# Altium footprint library SOP_635P_N.PcbLib: 17 footprints (part 1 of 2)
Each footprint in its own frame and in the unit in brackets; x right, y up, seen from the top. Pads: shape width x height; smd on the part's side, far side on the other; paste and mask are expansions set on the pad; w line width, h text height; cw(c..) or ccw(c..) is an arc to the next point about the centre after c.
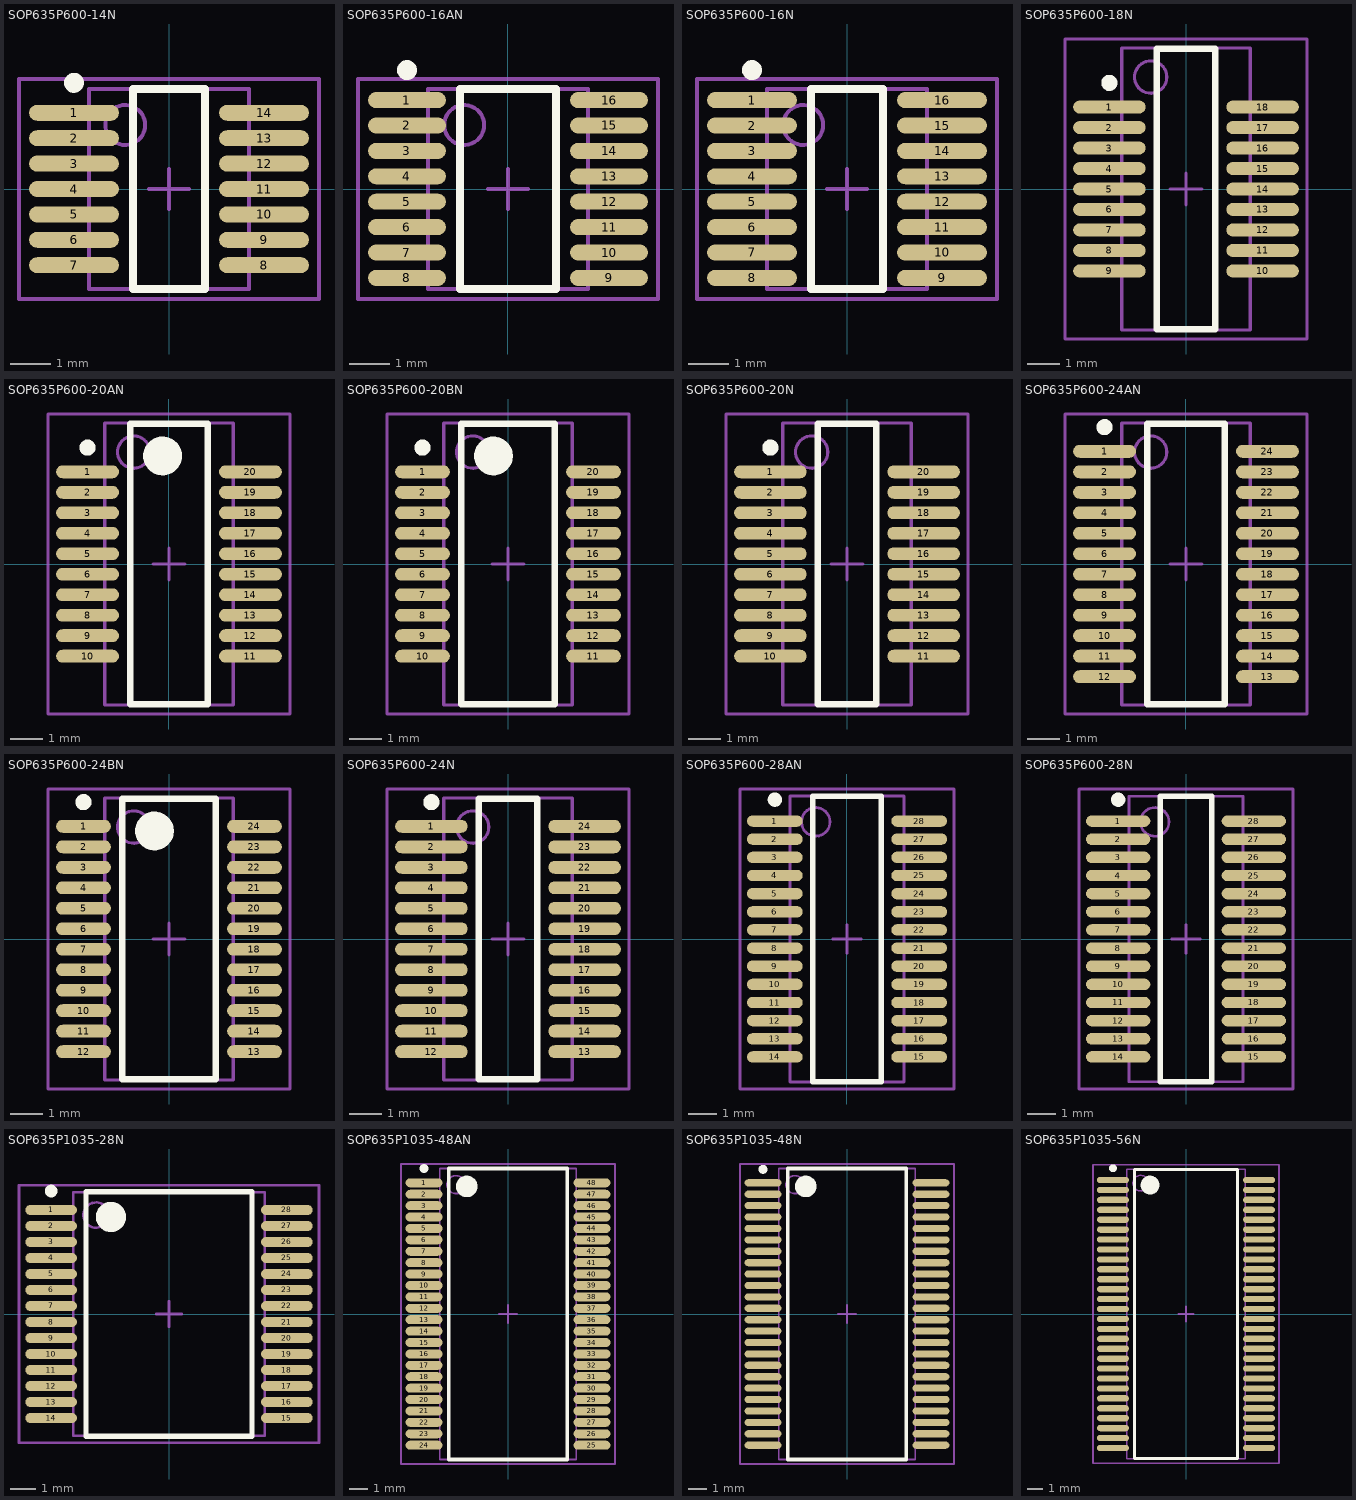
[diagram p0: the footprints below, top view; thin cyan lines are the x and y axes]

## SOP635P600-14N [mm] "SOP, 14-Leads, Body 4.9x3.9mm, Pitch 0.635mm, IPC Medium Density"
height 1.76
pads (14):
  oval 2.25x0.4 smd: 1(-2.375,1.905) 2(-2.375,1.27) 3(-2.375,0.635) 4(-2.375,0) 5(-2.375,-0.635) 6(-2.375,-1.27) 7(-2.375,-1.905) 8(2.375,-1.905) 9(2.375,-1.27) 10(2.375,-0.635) 11(2.375,0) 12(2.375,0.635) 13(2.375,1.27) 14(2.375,1.905)
Top Overlay:
  circle w0.25: c-2.375,2.655 r0.125
  lines w0.2: -0.9,-2.5 0.9,-2.5 0.9,2.5 -0.9,2.5 -0.9,-2.5
Mechanical 13:
  circle w0.1: c-1.095,1.6 r0.5
  lines w0.1: -1.995,-2.5 1.995,-2.5 1.995,2.5 -1.995,2.5 -1.995,-2.5
Mechanical 15:
  lines w0.1: -0.5,0 0.5,0 ; 0,-0.5 0,0.5 ; -3.75,-2.75 3.75,-2.75 3.75,2.75 -3.75,2.75 -3.75,-2.75
3D body: height 1.76, standoff 0, extent -1.995,-2.5 1.995,2.5

## SOP635P600-16AN [mm] "SOP, 16-Leads, Body 4.9x3.9mm, Pitch 0.635mm, IPC Medium Density"
height 1.76
pads (16):
  oval 1.95x0.4 smd: 1(-2.525,2.222) 2(-2.525,1.587) 3(-2.525,0.953) 4(-2.525,0.318) 5(-2.525,-0.318) 6(-2.525,-0.953) 7(-2.525,-1.587) 8(-2.525,-2.222) 9(2.525,-2.222) 10(2.525,-1.587) 11(2.525,-0.953) 12(2.525,-0.318) 13(2.525,0.318) 14(2.525,0.953) 15(2.525,1.587) 16(2.525,2.222)
Top Overlay:
  circle w0.25: c-2.525,2.973 r0.125
  lines w0.2: -1.2,-2.5 -1.2,2.5 1.2,2.5 1.2,-2.5 -1.2,-2.5
Mechanical 13:
  circle w0.1: c-1.095,1.6 r0.5
  lines w0.1: -1.995,-2.5 -1.995,2.5 1.995,2.5 1.995,-2.5 -1.995,-2.5
Mechanical 15:
  lines w0.1: -0.5,0 0.5,0 ; 0,-0.5 0,0.5 ; -3.75,-2.75 -3.75,2.75 3.75,2.75 3.75,-2.75 -3.75,-2.75
3D body: height 1.76, standoff 0, extent -1.995,-2.5 1.995,2.5

## SOP635P600-16N [mm] "SOP, 16-Leads, Body 4.9x3.9mm, Pitch 0.635mm, IPC Medium Density"
height 1.76
pads (16):
  oval 2.25x0.4 smd: 1(-2.375,2.222) 2(-2.375,1.587) 3(-2.375,0.953) 4(-2.375,0.318) 5(-2.375,-0.318) 6(-2.375,-0.953) 7(-2.375,-1.587) 8(-2.375,-2.222) 9(2.375,-2.222) 10(2.375,-1.587) 11(2.375,-0.953) 12(2.375,-0.318) 13(2.375,0.318) 14(2.375,0.953) 15(2.375,1.587) 16(2.375,2.222)
Top Overlay:
  circle w0.25: c-2.375,2.973 r0.125
  lines w0.2: -0.9,-2.5 0.9,-2.5 0.9,2.5 -0.9,2.5 -0.9,-2.5
Mechanical 13:
  circle w0.1: c-1.095,1.6 r0.5
  lines w0.1: -1.995,-2.5 1.995,-2.5 1.995,2.5 -1.995,2.5 -1.995,-2.5
Mechanical 15:
  lines w0.1: -0.5,0 0.5,0 ; 0,-0.5 0,0.5 ; -3.75,-2.75 3.75,-2.75 3.75,2.75 -3.75,2.75 -3.75,-2.75
3D body: height 1.76, standoff 0, extent -1.995,-2.5 1.995,2.5

## SOP635P600-18N [mm] "SOP, 18-Leads, Body 8.6x3.9mm, Pitch 0.635mm, IPC Medium Density"
height 1.76
pads (18):
  oval 2.25x0.4 smd: 1(-2.375,2.54) 2(-2.375,1.905) 3(-2.375,1.27) 4(-2.375,0.635) 5(-2.375,0) 6(-2.375,-0.635) 7(-2.375,-1.27) 8(-2.375,-1.905) 9(-2.375,-2.54) 10(2.375,-2.54) 11(2.375,-1.905) 12(2.375,-1.27) 13(2.375,-0.635) 14(2.375,0) 15(2.375,0.635) 16(2.375,1.27) 17(2.375,1.905) 18(2.375,2.54)
Top Overlay:
  circle w0.25: c-2.375,3.29 r0.125
  lines w0.2: -0.9,-4.35 0.9,-4.35 0.9,4.35 -0.9,4.35 -0.9,-4.35
Mechanical 13:
  circle w0.1: c-1.095,3.47 r0.5
  lines w0.1: -1.995,-4.37 1.995,-4.37 1.995,4.37 -1.995,4.37 -1.995,-4.37
Mechanical 15:
  lines w0.1: -0.5,0 0.5,0 ; 0,-0.5 0,0.5 ; -3.75,-4.65 3.75,-4.65 3.75,4.65 -3.75,4.65 -3.75,-4.65
3D body: height 1.76, standoff 0, extent -1.995,-4.37 1.995,4.37

## SOP635P600-20AN [mm] "SOP, 20-Leads, Body 8.7x3.9mm, Pitch 0.635mm, IPC Medium Density"
height 1.75
pads (20):
  oval 1.95x0.4 smd: 1(-2.525,2.857) 2(-2.525,2.222) 3(-2.525,1.587) 4(-2.525,0.953) 5(-2.525,0.318) 6(-2.525,-0.318) 7(-2.525,-0.953) 8(-2.525,-1.587) 9(-2.525,-2.222) 10(-2.525,-2.857) 11(2.525,-2.857) 12(2.525,-2.222) 13(2.525,-1.587) 14(2.525,-0.953) 15(2.525,-0.318) 16(2.525,0.318) 17(2.525,0.953) 18(2.525,1.587) 19(2.525,2.222) 20(2.525,2.857)
Top Overlay:
  circle w0.6: c-0.2,3.35 r0.3
  circle w0.25: c-2.525,3.608 r0.125
  lines w0.2: -1.2,-4.35 1.2,-4.35 1.2,4.35 -1.2,4.35 -1.2,-4.35
Mechanical 13:
  circle w0.1: c-1.095,3.47 r0.5
  lines w0.1: -1.995,-4.37 1.995,-4.37 1.995,4.37 -1.995,4.37 -1.995,-4.37
Mechanical 15:
  lines w0.1: -0.5,0 0.5,0 ; 0,-0.5 0,0.5 ; -3.75,-4.65 3.75,-4.65 3.75,4.65 -3.75,4.65 -3.75,-4.65
3D body: height 1.75, standoff 0, extent -1.995,-4.37 1.995,4.37

## SOP635P600-20BN [mm] "SOP, 20-Leads, Body 8.7x3.9mm, Pitch 0.635mm, IPC Medium Density"
height 1.73
pads (20):
  oval 1.7x0.4 smd: 1(-2.65,2.857) 2(-2.65,2.222) 3(-2.65,1.587) 4(-2.65,0.953) 5(-2.65,0.318) 6(-2.65,-0.318) 7(-2.65,-0.953) 8(-2.65,-1.587) 9(-2.65,-2.222) 10(-2.65,-2.857) 11(2.65,-2.857) 12(2.65,-2.222) 13(2.65,-1.587) 14(2.65,-0.953) 15(2.65,-0.318) 16(2.65,0.318) 17(2.65,0.953) 18(2.65,1.587) 19(2.65,2.222) 20(2.65,2.857)
Top Overlay:
  circle w0.25: c-2.65,3.608 r0.125
  circle w0.6: c-0.45,3.35 r0.3
  lines w0.2: -1.45,-4.35 -1.45,4.35 1.45,4.35 1.45,-4.35 -1.45,-4.35
Mechanical 13:
  circle w0.1: c-1.095,3.47 r0.5
  lines w0.1: -1.995,-4.37 -1.995,4.37 1.995,4.37 1.995,-4.37 -1.995,-4.37
Mechanical 15:
  lines w0.1: -0.5,0 0.5,0 ; 0,-0.5 0,0.5 ; -3.75,-4.65 -3.75,4.65 3.75,4.65 3.75,-4.65 -3.75,-4.65
3D body: height 1.73, standoff 0, extent -1.995,-4.37 1.995,4.37

## SOP635P600-20N [mm] "SOP, 20-Leads, Body 8.6x3.9mm, Pitch 0.635mm, IPC Medium Density"
height 1.76
pads (20):
  oval 2.25x0.4 smd: 1(-2.375,2.857) 2(-2.375,2.222) 3(-2.375,1.587) 4(-2.375,0.953) 5(-2.375,0.318) 6(-2.375,-0.318) 7(-2.375,-0.953) 8(-2.375,-1.587) 9(-2.375,-2.222) 10(-2.375,-2.857) 11(2.375,-2.857) 12(2.375,-2.222) 13(2.375,-1.587) 14(2.375,-0.953) 15(2.375,-0.318) 16(2.375,0.318) 17(2.375,0.953) 18(2.375,1.587) 19(2.375,2.222) 20(2.375,2.857)
Top Overlay:
  circle w0.25: c-2.375,3.608 r0.125
  lines w0.2: -0.9,-4.35 0.9,-4.35 0.9,4.35 -0.9,4.35 -0.9,-4.35
Mechanical 13:
  circle w0.1: c-1.095,3.47 r0.5
  lines w0.1: -1.995,-4.37 1.995,-4.37 1.995,4.37 -1.995,4.37 -1.995,-4.37
Mechanical 15:
  lines w0.1: -0.5,0 0.5,0 ; 0,-0.5 0,0.5 ; -3.75,-4.65 3.75,-4.65 3.75,4.65 -3.75,4.65 -3.75,-4.65
3D body: height 1.76, standoff 0, extent -1.995,-4.37 1.995,4.37

## SOP635P600-24AN [mm] "SOP, 24-Leads, Body 8.6x3.9mm, Pitch 0.635mm, IPC Medium Density"
height 1.76
pads (24):
  oval 1.95x0.4 smd: 1(-2.525,3.492) 2(-2.525,2.857) 3(-2.525,2.222) 4(-2.525,1.587) 5(-2.525,0.953) 6(-2.525,0.318) 7(-2.525,-0.318) 8(-2.525,-0.953) 9(-2.525,-1.587) 10(-2.525,-2.222) 11(-2.525,-2.857) 12(-2.525,-3.492) 13(2.525,-3.492) 14(2.525,-2.857) 15(2.525,-2.222) 16(2.525,-1.587) 17(2.525,-0.953) 18(2.525,-0.318) 19(2.525,0.318) 20(2.525,0.953) 21(2.525,1.587) 22(2.525,2.222) 23(2.525,2.857) 24(2.525,3.492)
Top Overlay:
  circle w0.25: c-2.525,4.243 r0.125
  lines w0.2: -1.2,-4.35 1.2,-4.35 1.2,4.35 -1.2,4.35 -1.2,-4.35
Mechanical 13:
  circle w0.1: c-1.095,3.47 r0.5
  lines w0.1: -1.995,-4.37 1.995,-4.37 1.995,4.37 -1.995,4.37 -1.995,-4.37
Mechanical 15:
  lines w0.1: -0.5,0 0.5,0 ; 0,-0.5 0,0.5 ; -3.75,-4.65 3.75,-4.65 3.75,4.65 -3.75,4.65 -3.75,-4.65
3D body: height 1.76, standoff 0, extent -1.995,-4.37 1.995,4.37

## SOP635P600-24BN [mm] "SOP, 24-Leads, Body 8.7x3.9mm, Pitch 0.635mm, IPC Medium Density"
height 1.73
pads (24):
  oval 1.7x0.4 smd: 1(-2.65,3.492) 2(-2.65,2.857) 3(-2.65,2.222) 4(-2.65,1.587) 5(-2.65,0.953) 6(-2.65,0.318) 7(-2.65,-0.318) 8(-2.65,-0.953) 9(-2.65,-1.587) 10(-2.65,-2.222) 11(-2.65,-2.857) 12(-2.65,-3.492) 13(2.65,-3.492) 14(2.65,-2.857) 15(2.65,-2.222) 16(2.65,-1.587) 17(2.65,-0.953) 18(2.65,-0.318) 19(2.65,0.318) 20(2.65,0.953) 21(2.65,1.587) 22(2.65,2.222) 23(2.65,2.857) 24(2.65,3.492)
Top Overlay:
  circle w0.25: c-2.65,4.243 r0.125
  circle w0.6: c-0.45,3.35 r0.3
  lines w0.2: -1.45,-4.35 -1.45,4.35 1.45,4.35 1.45,-4.35 -1.45,-4.35
Mechanical 13:
  circle w0.1: c-1.095,3.47 r0.5
  lines w0.1: -1.995,-4.37 -1.995,4.37 1.995,4.37 1.995,-4.37 -1.995,-4.37
Mechanical 15:
  lines w0.1: -0.5,0 0.5,0 ; 0,-0.5 0,0.5 ; -3.75,-4.65 -3.75,4.65 3.75,4.65 3.75,-4.65 -3.75,-4.65
3D body: height 1.73, standoff 0, extent -1.995,-4.37 1.995,4.37

## SOP635P600-24N [mm] "SOP, 24-Leads, Body 8.6x3.9mm, Pitch 0.635mm, IPC Medium Density"
height 1.76
pads (24):
  oval 2.25x0.4 smd: 1(-2.375,3.492) 2(-2.375,2.857) 3(-2.375,2.222) 4(-2.375,1.587) 5(-2.375,0.953) 6(-2.375,0.318) 7(-2.375,-0.318) 8(-2.375,-0.953) 9(-2.375,-1.587) 10(-2.375,-2.222) 11(-2.375,-2.857) 12(-2.375,-3.492) 13(2.375,-3.492) 14(2.375,-2.857) 15(2.375,-2.222) 16(2.375,-1.587) 17(2.375,-0.953) 18(2.375,-0.318) 19(2.375,0.318) 20(2.375,0.953) 21(2.375,1.587) 22(2.375,2.222) 23(2.375,2.857) 24(2.375,3.492)
Top Overlay:
  circle w0.25: c-2.375,4.243 r0.125
  lines w0.2: -0.9,-4.35 0.9,-4.35 0.9,4.35 -0.9,4.35 -0.9,-4.35
Mechanical 13:
  circle w0.1: c-1.095,3.47 r0.5
  lines w0.1: -1.995,-4.37 1.995,-4.37 1.995,4.37 -1.995,4.37 -1.995,-4.37
Mechanical 15:
  lines w0.1: -0.5,0 0.5,0 ; 0,-0.5 0,0.5 ; -3.75,-4.65 3.75,-4.65 3.75,4.65 -3.75,4.65 -3.75,-4.65
3D body: height 1.76, standoff 0, extent -1.995,-4.37 1.995,4.37

## SOP635P600-28AN [mm] "SOP, 28-Leads, Body 9.9x3.9mm, Pitch 0.635mm, IPC Medium Density"
height 1.73
pads (28):
  oval 1.95x0.4 smd: 1(-2.525,4.127) 2(-2.525,3.492) 3(-2.525,2.857) 4(-2.525,2.222) 5(-2.525,1.587) 6(-2.525,0.953) 7(-2.525,0.318) 8(-2.525,-0.318) 9(-2.525,-0.953) 10(-2.525,-1.587) 11(-2.525,-2.222) 12(-2.525,-2.857) 13(-2.525,-3.492) 14(-2.525,-4.127) 15(2.525,-4.127) 16(2.525,-3.492) 17(2.525,-2.857) 18(2.525,-2.222) 19(2.525,-1.587) 20(2.525,-0.953) 21(2.525,-0.318) 22(2.525,0.318) 23(2.525,0.953) 24(2.525,1.587) 25(2.525,2.222) 26(2.525,2.857) 27(2.525,3.492) 28(2.525,4.127)
Top Overlay:
  circle w0.25: c-2.525,4.878 r0.125
  lines w0.2: -1.2,-5 1.2,-5 1.2,5 -1.2,5 -1.2,-5
Mechanical 13:
  circle w0.1: c-1.095,4.1 r0.5
  lines w0.1: -1.995,-5 1.995,-5 1.995,5 -1.995,5 -1.995,-5
Mechanical 15:
  lines w0.1: -0.5,0 0.5,0 ; 0,-0.5 0,0.5 ; -3.75,-5.25 3.75,-5.25 3.75,5.25 -3.75,5.25 -3.75,-5.25
3D body: height 1.73, standoff 0, extent -1.995,-5 1.995,5

## SOP635P600-28N [mm] "SOP, 28-Leads, Body 9.9x3.9mm, Pitch 0.635mm, IPC Medium Density"
height 1.76
pads (28):
  oval 2.25x0.4 smd: 1(-2.375,4.127) 2(-2.375,3.492) 3(-2.375,2.857) 4(-2.375,2.222) 5(-2.375,1.587) 6(-2.375,0.953) 7(-2.375,0.318) 8(-2.375,-0.318) 9(-2.375,-0.953) 10(-2.375,-1.587) 11(-2.375,-2.222) 12(-2.375,-2.857) 13(-2.375,-3.492) 14(-2.375,-4.127) 15(2.375,-4.127) 16(2.375,-3.492) 17(2.375,-2.857) 18(2.375,-2.222) 19(2.375,-1.587) 20(2.375,-0.953) 21(2.375,-0.318) 22(2.375,0.318) 23(2.375,0.953) 24(2.375,1.587) 25(2.375,2.222) 26(2.375,2.857) 27(2.375,3.492) 28(2.375,4.127)
Top Overlay:
  circle w0.25: c-2.375,4.878 r0.125
  lines w0.2: -0.9,-5 0.9,-5 0.9,5 -0.9,5 -0.9,-5
Mechanical 13:
  circle w0.1: c-1.095,4.1 r0.5
  lines w0.1: -1.995,-5 1.995,-5 1.995,5 -1.995,5 -1.995,-5
Mechanical 15:
  lines w0.1: -0.5,0 0.5,0 ; 0,-0.5 0,0.5 ; -3.75,-5.25 3.75,-5.25 3.75,5.25 -3.75,5.25 -3.75,-5.25
3D body: height 1.76, standoff 0, extent -1.995,-5 1.995,5

## SOP635P1035-28N [mm] "SOP, 28-Leads, Body 9.5x7.5mm, Pitch 0.635mm, IPC Medium Density"
height 2.8
pads (28):
  oval 2.05x0.4 smd: 1(-4.675,4.127) 2(-4.675,3.492) 3(-4.675,2.857) 4(-4.675,2.222) 5(-4.675,1.587) 6(-4.675,0.953) 7(-4.675,0.318) 8(-4.675,-0.318) 9(-4.675,-0.953) 10(-4.675,-1.587) 11(-4.675,-2.222) 12(-4.675,-2.857) 13(-4.675,-3.492) 14(-4.675,-4.127) 15(4.675,-4.127) 16(4.675,-3.492) 17(4.675,-2.857) 18(4.675,-2.222) 19(4.675,-1.587) 20(4.675,-0.953) 21(4.675,-0.318) 22(4.675,0.318) 23(4.675,0.953) 24(4.675,1.587) 25(4.675,2.222) 26(4.675,2.857) 27(4.675,3.492) 28(4.675,4.127)
Top Overlay:
  circle w0.6: c-2.3,3.85 r0.3
  circle w0.25: c-4.675,4.878 r0.125
  lines w0.2: -3.3,-4.85 3.3,-4.85 3.3,4.85 -3.3,4.85 -3.3,-4.85
Mechanical 13:
  circle w0.1: c-2.895,3.925 r0.5
  lines w0.1: -3.795,-4.825 3.795,-4.825 3.795,4.825 -3.795,4.825 -3.795,-4.825
Mechanical 15:
  lines w0.1: -0.5,0 0.5,0 ; 0,-0.5 0,0.5 ; -5.95,-5.1 5.95,-5.1 5.95,5.1 -5.95,5.1 -5.95,-5.1
3D body: height 2.8, standoff 0, extent -3.795,-4.825 3.795,4.825

## SOP635P1035-48AN [mm] "SOP, 48-Leads, Body 15.9x7.5mm, Pitch 0.635mm, IPC Medium Density"
height 2.74
pads (48):
  oval 2.05x0.5 smd: 1(-4.675,7.302) 2(-4.675,6.667) 3(-4.675,6.032) 4(-4.675,5.397) 5(-4.675,4.763) 6(-4.675,4.127) 7(-4.675,3.492) 8(-4.675,2.857) 9(-4.675,2.222) 10(-4.675,1.587) 11(-4.675,0.953) 12(-4.675,0.318) 13(-4.675,-0.318) 14(-4.675,-0.953) 15(-4.675,-1.587) 16(-4.675,-2.222) 17(-4.675,-2.857) 18(-4.675,-3.492) 19(-4.675,-4.127) 20(-4.675,-4.763) 21(-4.675,-5.397) 22(-4.675,-6.032) 23(-4.675,-6.667) 24(-4.675,-7.302) 25(4.675,-7.302) 26(4.675,-6.667) 27(4.675,-6.032) 28(4.675,-5.397) 29(4.675,-4.763) 30(4.675,-4.127) 31(4.675,-3.492) 32(4.675,-2.857) 33(4.675,-2.222) 34(4.675,-1.587) 35(4.675,-0.953) 36(4.675,-0.318) 37(4.675,0.318) 38(4.675,0.953) 39(4.675,1.587) 40(4.675,2.222) 41(4.675,2.857) 42(4.675,3.492) 43(4.675,4.127) 44(4.675,4.763) 45(4.675,5.397) 46(4.675,6.032) 47(4.675,6.667) 48(4.675,7.302)
Top Overlay:
  circle w0.6: c-2.3,7.1 r0.3
  circle w0.25: c-4.675,8.103 r0.125
  lines w0.2: -3.3,-8.1 3.3,-8.1 3.3,8.1 -3.3,8.1 -3.3,-8.1
Mechanical 13:
  circle w0.1: c-2.895,7.2 r0.5
  lines w0.1: -3.795,-8.1 3.795,-8.1 3.795,8.1 -3.795,8.1 -3.795,-8.1
Mechanical 15:
  lines w0.1: -0.5,0 0.5,0 ; 0,-0.5 0,0.5 ; -5.95,-8.35 5.95,-8.35 5.95,8.35 -5.95,8.35 -5.95,-8.35
3D body: height 2.74, standoff 0, extent -3.795,-8.1 3.795,8.1

## SOP635P1035-48N [mm] "SOP, 48-Leads, Body 15.9x7.5mm, Pitch 0.635mm, IPC Medium Density"
height 2.79
pads (48):
  oval 2.05x0.4 smd: 1(-4.675,7.302) 2(-4.675,6.667) 3(-4.675,6.032) 4(-4.675,5.397) 5(-4.675,4.763) 6(-4.675,4.127) 7(-4.675,3.492) 8(-4.675,2.857) 9(-4.675,2.222) 10(-4.675,1.587) 11(-4.675,0.953) 12(-4.675,0.318) 13(-4.675,-0.318) 14(-4.675,-0.953) 15(-4.675,-1.587) 16(-4.675,-2.222) 17(-4.675,-2.857) 18(-4.675,-3.492) 19(-4.675,-4.127) 20(-4.675,-4.763) 21(-4.675,-5.397) 22(-4.675,-6.032) 23(-4.675,-6.667) 24(-4.675,-7.302) 25(4.675,-7.302) 26(4.675,-6.667) 27(4.675,-6.032) 28(4.675,-5.397) 29(4.675,-4.763) 30(4.675,-4.127) 31(4.675,-3.492) 32(4.675,-2.857) 33(4.675,-2.222) 34(4.675,-1.587) 35(4.675,-0.953) 36(4.675,-0.318) 37(4.675,0.318) 38(4.675,0.953) 39(4.675,1.587) 40(4.675,2.222) 41(4.675,2.857) 42(4.675,3.492) 43(4.675,4.127) 44(4.675,4.763) 45(4.675,5.397) 46(4.675,6.032) 47(4.675,6.667) 48(4.675,7.302)
Top Overlay:
  circle w0.6: c-2.3,7.1 r0.3
  circle w0.25: c-4.675,8.053 r0.125
  lines w0.2: -3.3,-8.1 3.3,-8.1 3.3,8.1 -3.3,8.1 -3.3,-8.1
Mechanical 13:
  circle w0.1: c-2.895,7.2 r0.5
  lines w0.1: -3.795,-8.1 3.795,-8.1 3.795,8.1 -3.795,8.1 -3.795,-8.1
Mechanical 15:
  lines w0.1: -0.5,0 0.5,0 ; 0,-0.5 0,0.5 ; -5.95,-8.35 5.95,-8.35 5.95,8.35 -5.95,8.35 -5.95,-8.35
3D body: height 2.79, standoff 0, extent -3.795,-8.1 3.795,8.1

## SOP635P1035-56N [mm] "SOP, 56-Leads, Body 18.4x7.5mm, Pitch 0.635mm, IPC Medium Density"
height 2.79
pads (56):
  oval 2.05x0.4 smd: 1(-4.675,8.572) 2(-4.675,7.938) 3(-4.675,7.302) 4(-4.675,6.667) 5(-4.675,6.032) 6(-4.675,5.397) 7(-4.675,4.763) 8(-4.675,4.127) 9(-4.675,3.492) 10(-4.675,2.857) 11(-4.675,2.222) 12(-4.675,1.587) 13(-4.675,0.953) 14(-4.675,0.318) 15(-4.675,-0.318) 16(-4.675,-0.953) 17(-4.675,-1.587) 18(-4.675,-2.222) 19(-4.675,-2.857) 20(-4.675,-3.492) 21(-4.675,-4.127) 22(-4.675,-4.763) 23(-4.675,-5.397) 24(-4.675,-6.032) 25(-4.675,-6.667) 26(-4.675,-7.302) 27(-4.675,-7.938) 28(-4.675,-8.572) 29(4.675,-8.572) 30(4.675,-7.938) 31(4.675,-7.302) 32(4.675,-6.667) 33(4.675,-6.032) 34(4.675,-5.397) 35(4.675,-4.763) 36(4.675,-4.127) 37(4.675,-3.492) 38(4.675,-2.857) 39(4.675,-2.222) 40(4.675,-1.587) 41(4.675,-0.953) 42(4.675,-0.318) 43(4.675,0.318) 44(4.675,0.953) 45(4.675,1.587) 46(4.675,2.222) 47(4.675,2.857) 48(4.675,3.492) 49(4.675,4.127) 50(4.675,4.763) 51(4.675,5.397) 52(4.675,6.032) 53(4.675,6.667) 54(4.675,7.302) 55(4.675,7.938) 56(4.675,8.572)
Top Overlay:
  circle w0.6: c-2.3,8.25 r0.3
  circle w0.25: c-4.675,9.323 r0.125
  lines w0.2: -3.3,-9.25 3.3,-9.25 3.3,9.25 -3.3,9.25 -3.3,-9.25
Mechanical 13:
  circle w0.1: c-2.895,8.37 r0.5
  lines w0.1: -3.795,-9.27 3.795,-9.27 3.795,9.27 -3.795,9.27 -3.795,-9.27
Mechanical 15:
  lines w0.1: -0.5,0 0.5,0 ; 0,-0.5 0,0.5 ; -5.95,-9.55 5.95,-9.55 5.95,9.55 -5.95,9.55 -5.95,-9.55
3D body: height 2.79, standoff 0, extent -3.795,-9.27 3.795,9.27